# Altium footprint library bq25820.PcbLib: 4 footprints
Each footprint in its own frame and in the unit in brackets; x right, y up, seen from the top. Pads: shape width x height; smd on the part's side, far side on the other; paste and mask are expansions set on the pad; w line width, h text height; cw(c..) or ccw(c..) is an arc to the next point about the centre after c.
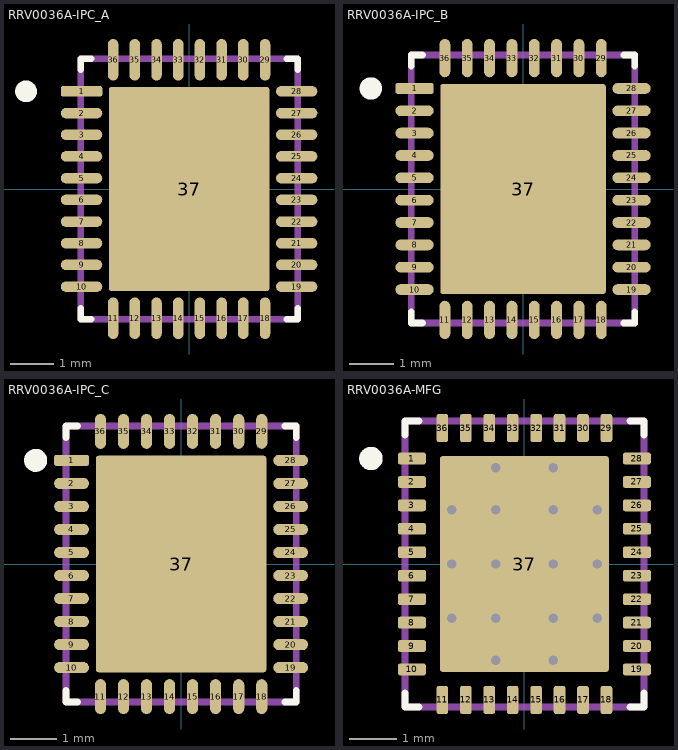
[diagram p0: the footprints below, top view; thin cyan lines are the x and y axes]

## RRV0036A-IPC_A [mm]
pads (37):
  rrect41% 0.956x0.242 smd paste+0 mask+0: 1(-2.478,2.25)
  rrect100% 0.956x0.242 smd paste+0 mask+0: 2(-2.478,1.75) 3(-2.478,1.25) 4(-2.478,0.75) 5(-2.478,0.25) 6(-2.478,-0.25) 7(-2.478,-0.75) 8(-2.478,-1.25) 9(-2.478,-1.75) 10(-2.478,-2.25) 19(2.478,-2.25) 20(2.478,-1.75) 21(2.478,-1.25) 22(2.478,-0.75) 23(2.478,-0.25) 24(2.478,0.25) 25(2.478,0.75) 26(2.478,1.25) 27(2.478,1.75) 28(2.478,2.25)
  rrect100% 0.242x0.956 smd paste+0 mask+0: 11(-1.75,-2.978) 12(-1.25,-2.978) 13(-0.75,-2.978) 14(-0.25,-2.978) 15(0.25,-2.978) 16(0.75,-2.978) 17(1.25,-2.978) 18(1.75,-2.978) 29(1.75,2.978) 30(1.25,2.978) 31(0.75,2.978) 32(0.25,2.978) 33(-0.25,2.978) 34(-0.75,2.978) 35(-1.25,2.978) 36(-1.75,2.978)
  rrect3% 3.7x4.7 smd paste-1000 mask+0: 37(0,0)
Top Overlay:
  circle w0.25: c-3.756,2.25 r0.125
  lines w0.15: -2.5,-2.75 -2.5,-3 -2.25,-3 ; -2.5,2.75 -2.5,3 -2.25,3 ; 2.25,-3 2.5,-3 2.5,-2.75 ; 2.25,3 2.5,3 2.5,2.75
Top Paste:
  rectangle: -1.271,0.289 1.271,1.771
  rectangle: -1.271,-1.771 1.271,-0.289
Mechanical 5:
  lines w0.15: -2.5,-3 2.5,-3 2.5,3 -2.5,3 -2.5,-3
  text ".Designator" at 0.05,0.217 h0.5
3D body "IC_BQ25751RRVT_VQFN36.STEP": height 0.25, standoff 0, extent -3.456,-3.956 3.456,3.956

## RRV0036A-IPC_B [mm]
pads (37):
  rrect41% 0.856x0.242 smd paste+0 mask+0: 1(-2.428,2.25)
  rrect100% 0.856x0.242 smd paste+0 mask+0: 2(-2.428,1.75) 3(-2.428,1.25) 4(-2.428,0.75) 5(-2.428,0.25) 6(-2.428,-0.25) 7(-2.428,-0.75) 8(-2.428,-1.25) 9(-2.428,-1.75) 10(-2.428,-2.25) 19(2.428,-2.25) 20(2.428,-1.75) 21(2.428,-1.25) 22(2.428,-0.75) 23(2.428,-0.25) 24(2.428,0.25) 25(2.428,0.75) 26(2.428,1.25) 27(2.428,1.75) 28(2.428,2.25)
  rrect100% 0.242x0.856 smd paste+0 mask+0: 11(-1.75,-2.928) 12(-1.25,-2.928) 13(-0.75,-2.928) 14(-0.25,-2.928) 15(0.25,-2.928) 16(0.75,-2.928) 17(1.25,-2.928) 18(1.75,-2.928) 29(1.75,2.928) 30(1.25,2.928) 31(0.75,2.928) 32(0.25,2.928) 33(-0.25,2.928) 34(-0.75,2.928) 35(-1.25,2.928) 36(-1.75,2.928)
  rrect3% 3.7x4.7 smd paste-1000 mask+0: 37(0,0)
Top Overlay:
  circle w0.25: c-3.406,2.25 r0.125
  lines w0.15: -2.5,-2.75 -2.5,-3 -2.25,-3 ; -2.5,2.75 -2.5,3 -2.25,3 ; 2.25,-3 2.5,-3 2.5,-2.75 ; 2.25,3 2.5,3 2.5,2.75
Top Paste:
  rectangle: -1.271,0.289 1.271,1.771
  rectangle: -1.271,-1.771 1.271,-0.289
Mechanical 5:
  lines w0.15: -2.5,-3 2.5,-3 2.5,3 -2.5,3 -2.5,-3
  text ".Designator" at 0.05,0.217 h0.5
3D body "IC_BQ25751RRVT_VQFN36.STEP": height 0.25, standoff 0, extent -3.106,-3.606 3.106,3.606

## RRV0036A-IPC_C [mm]
pads (37):
  rrect41% 0.756x0.242 smd paste+0 mask+0: 1(-2.378,2.25)
  rrect100% 0.756x0.242 smd paste+0 mask+0: 2(-2.378,1.75) 3(-2.378,1.25) 4(-2.378,0.75) 5(-2.378,0.25) 6(-2.378,-0.25) 7(-2.378,-0.75) 8(-2.378,-1.25) 9(-2.378,-1.75) 10(-2.378,-2.25) 19(2.378,-2.25) 20(2.378,-1.75) 21(2.378,-1.25) 22(2.378,-0.75) 23(2.378,-0.25) 24(2.378,0.25) 25(2.378,0.75) 26(2.378,1.25) 27(2.378,1.75) 28(2.378,2.25)
  rrect100% 0.242x0.756 smd paste+0 mask+0: 11(-1.75,-2.878) 12(-1.25,-2.878) 13(-0.75,-2.878) 14(-0.25,-2.878) 15(0.25,-2.878) 16(0.75,-2.878) 17(1.25,-2.878) 18(1.75,-2.878) 29(1.75,2.878) 30(1.25,2.878) 31(0.75,2.878) 32(0.25,2.878) 33(-0.25,2.878) 34(-0.75,2.878) 35(-1.25,2.878) 36(-1.75,2.878)
  rrect3% 3.7x4.7 smd paste-1000 mask+0: 37(0,0)
Top Overlay:
  circle w0.25: c-3.156,2.25 r0.125
  lines w0.15: -2.5,-2.75 -2.5,-3 -2.25,-3 ; -2.5,2.75 -2.5,3 -2.25,3 ; 2.25,-3 2.5,-3 2.5,-2.75 ; 2.25,3 2.5,3 2.5,2.75
Top Paste:
  rectangle: -1.271,0.289 1.271,1.771
  rectangle: -1.271,-1.771 1.271,-0.289
Mechanical 5:
  lines w0.15: -2.5,-3 2.5,-3 2.5,3 -2.5,3 -2.5,-3
  text ".Designator" at 0.05,0.217 h0.5
3D body "IC_BQ25751RRVT_VQFN36.STEP": height 0.25, standoff 0, extent -2.856,-3.356 2.856,3.356

## RRV0036A-MFG [mm]
pads (37):
  rrect40% 0.6x0.25 smd paste+0 mask+0: 1(-2.4,2.25) 2(-2.4,1.75) 3(-2.4,1.25) 4(-2.4,0.75) 5(-2.4,0.25) 6(-2.4,-0.25) 7(-2.4,-0.75) 8(-2.4,-1.25) 9(-2.4,-1.75) 10(-2.4,-2.25) 19(2.4,-2.25) 20(2.4,-1.75) 21(2.4,-1.25) 22(2.4,-0.75) 23(2.4,-0.25) 24(2.4,0.25) 25(2.4,0.75) 26(2.4,1.25) 27(2.4,1.75) 28(2.4,2.25)
  rrect40% 0.25x0.6 smd paste+0 mask+0: 11(-1.75,-2.9) 12(-1.25,-2.9) 13(-0.75,-2.9) 14(-0.25,-2.9) 15(0.25,-2.9) 16(0.75,-2.9) 17(1.25,-2.9) 18(1.75,-2.9) 29(1.75,2.9) 30(1.25,2.9) 31(0.75,2.9) 32(0.25,2.9) 33(-0.25,2.9) 34(-0.75,2.9) 35(-1.25,2.9) 36(-1.75,2.9)
  rrect3% 3.6x4.6 smd paste-1000 mask+0: 37(0,0)
via -1.55,0 diameter 0.5 hole 0.2
via 1.55,0 diameter 0.5 hole 0.2
via -1.55,-1.16 diameter 0.5 hole 0.2
via 1.55,-1.16 diameter 0.5 hole 0.2
via -1.55,1.16 diameter 0.5 hole 0.2
via 1.55,1.16 diameter 0.5 hole 0.2
via -0.615,1.16 diameter 0.5 hole 0.2
via 0.615,1.16 diameter 0.5 hole 0.2
via -0.615,-1.16 diameter 0.5 hole 0.2
via 0.615,-1.16 diameter 0.5 hole 0.2
via -0.615,0 diameter 0.5 hole 0.2
via 0.615,0 diameter 0.5 hole 0.2
via -0.615,2.05 diameter 0.5 hole 0.2
via 0.615,2.05 diameter 0.5 hole 0.2
via -0.615,-2.05 diameter 0.5 hole 0.2
via 0.615,-2.05 diameter 0.5 hole 0.2
Top Overlay:
  circle w0.25: c-3.275,2.25 r0.125
  lines w0.15: -2.55,-2.75 -2.55,-3.05 -2.25,-3.05 ; -2.55,2.75 -2.55,3.05 -2.25,3.05 ; 2.25,-3.05 2.55,-3.05 2.55,-2.75 ; 2.25,3.05 2.55,3.05 2.55,2.75
Top Paste:
  drawing of 12 lines, arcs and shapes, not listed
Mechanical 5:
  lines w0.15: -2.55,-3.05 2.55,-3.05 2.55,3.05 -2.55,3.05 -2.55,-3.05
  text ".Designator" at 0.05,0.217 h0.5
3D body "IC_BQ25751RRVT_VQFN36.STEP": height 0.25, standoff 0, extent -2.8,-3.3 2.8,3.3